# EAGLE library part ESP32-PICO-V4-SOCKET (library esp32-pico-v4-header)
ESP32-PICO-V4-SOCKET This low cost ESP32 board can mount on a socket making it an easy daughterboard solution. Pinout Reference <https://docs.espressif.com/projects/esp-idf/en/latest/get-started/get-started-pico-kit.html#header-j2> As of end of 2018 these are $8 each from DigiKey <https://www.digikey.com/product-detail/en/espressif-systems/ESP32-PICO-KIT/1904-1030-ND/9381703?utm_adgroup=RF%20&%20RFID> Actual sockets needed are 1x20 (x2) although the bottom three pins on each side are not brought off the board. As of the end of 2018 these headers are $0.68 each (x1) at Phoenix Enterprises. <https://www.peconnectors.com/female-headers-pcb-1x-row-.100/hws15775/>
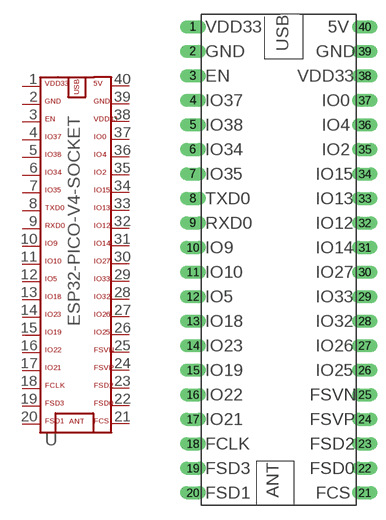
[diagram p0: symbol with the pads of ESP32-PICO-V4-SOCKET; footprint ESP32-PICO-V4-SOCKET]

Designator prefix U

## ESP32-PICO-V4-SOCKET  [ESP32-PICO-V4-SOCKET]
1  3V3  pwr
2  2  pas
3  3  pas
4  4  pas
5  5  pas
6  6  pas
7  7  pas
8  8  pas
9  9  pas
10  10  pas
11  11  pas
12  12  pas
13  13  pas
14  14  pas
15  15  pas
16  16  pas
17  17  pas
18  18  pas
19  19  pas
20  20  pas
21  21  pas
22  22  pas
23  23  pas
24  24  pas
25  25  pas
26  26  pas
27  27  pas
28  28  pas
29  29  pas
30  30  pas
31  31  pas
32  32  pas
33  33  pas
34  34  pas
35  35  pas
36  36  pas
37  37  pas
38  38  pas
39  39  pas
40  40  pas

## Footprint ESP32-PICO-V4-SOCKET (pad centres in mm)
ESP32-PICO-V4-SOCKET Package
drill 0.813 long: 1 -8.89,29.21; 2 -8.89,26.67; 3 -8.89,24.13; 4 -8.89,21.59; 5 -8.89,19.05; 6 -8.89,16.51; 7 -8.89,13.97; 8 -8.89,11.43; 9 -8.89,8.89; 10 -8.89,6.35; 11 -8.89,3.81; 12 -8.89,1.27; 13 -8.89,-1.27; 14 -8.89,-3.81; 15 -8.89,-6.35; 16 -8.89,-8.89; 17 -8.89,-11.43; 18 -8.89,-13.97; 19 -8.89,-16.51; 20 -8.89,-19.05; 21 8.89,-19.05; 22 8.89,-16.51; 23 8.89,-13.97; 24 8.89,-11.43; 25 8.89,-8.89; 26 8.89,-6.35; 27 8.89,-3.81; 28 8.89,-1.27; 29 8.89,1.27; 30 8.89,3.81; 31 8.89,6.35; 32 8.89,8.89; 33 8.89,11.43; 34 8.89,13.97; 35 8.89,16.51; 36 8.89,19.05; 37 8.89,21.59; 38 8.89,24.13; 39 8.89,26.67; 40 8.89,29.21